# Altium schematic symbol library SMD Resistors 0603.SchLib: 112 symbols (part 2 of 2)
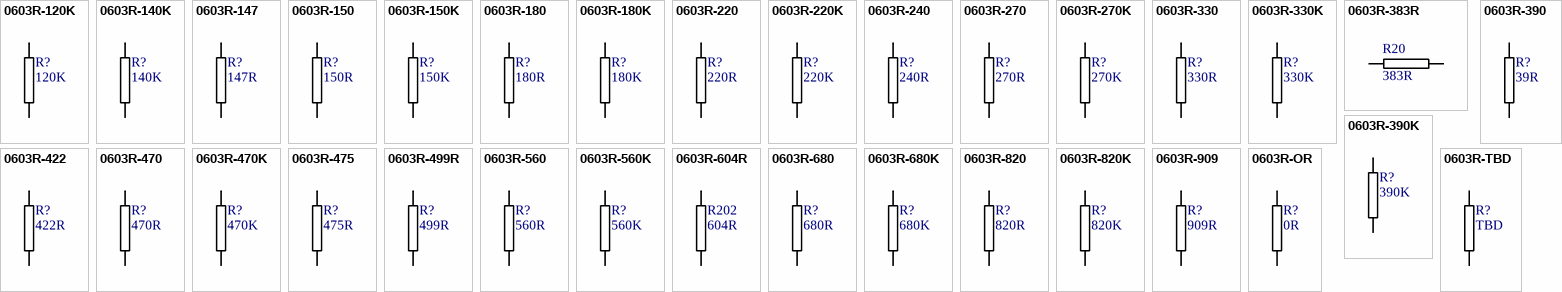
[diagram p3: symbols 0603R-120K to 0603R-TBD]

## 0603R-470K
designator R?, comment 470K
GENERIC RESISTOR 0603; Manufacturer Part Number: RMCF 1/16 470K 1% R; Manufacturer: Stackpole Electronics Inc; Temperature Coefficient: ±100ppm/°C; Description: RES 470K OHM 1/10W 1% 0603 SMD; Tolerance: ±1%; Power (Watts): 0.1W, 1/10W; Supplier 1: Digi-Key; Supplier Part Number 1: RMCF1/16470KFRCT-ND; Supplier Part Number: RMCF1/16470KFRCT-ND; Composition: Thick Film; Category: Resistors; Lead Style: Surface Mount (SMD - SMT); RoHS: RoHS Compliant; Resistance In Ohms: 470K; Case: 0603 (1608 metric); Supplier: Digi-Key; Packaging: Cut Tape (CT)
footprint 0603R-470K (RESISTOR 0603)
pins: 1, 2

## 0603R-475
designator R?, comment 475R
GENERIC RESISTOR 0603; Manufacturer: Stackpole Electronics Inc; Manufacturer Part Number: RMCF 1/16 475 1% R; Description: RES 475 OHM 1/10W 1% 0603 SMD; Temperature Coefficient: ±100ppm/°C; Tolerance: ±1%; Power (Watts): 0.1W, 1/10W; Resistance In Ohms: 475; Reel: R29; Supplier 1: Digi-Key; Supplier Part Number 1: RMCF1/16475FRTR-ND; RoHS: RoHS Compliant; Supplier Part Number: RMCF1/16475FRTR-ND; Category: Resistors; Packaging: Tape & Reel (TR); Lead Style: Surface Mount (SMD - SMT); Supplier: Digi-Key; Case: 0603 (1608 metric); Composition: Thick Film
footprint 0603R-TBD (RESISTOR 0603 VALUE TO BE DETERMINED)
pins: 1, 2

## 0603R-499R
designator R?, comment 499R
GENERIC RESISTOR 0603; Supplier 1: Digi-Key; Supplier Part Number 1: RNCP0603FTD499RTR-ND
footprint 0603R-GENERIC (RESISTOR 0603)
footprint 0603R-NI (RESISTOR 0603 NON INSTALLED)
pins: 1, 2

## 0603R-560
designator R?, comment 560R
GENERIC RESISTOR 0603; Manufacturer: Stackpole Electronics Inc; Manufacturer Part Number: RMC 1/16 560 1% R; Power (Watts): 0.1W, 1/10W; Description: RES TF 1/10W 560 OHM 1% 0603; Resistance In Ohms: 560; Temperature Coefficient: ±100ppm/°C; Tolerance: ±1%; Supplier 1: Digi-Key; Supplier Part Number 1: RMC1/16560FR-ND; Case: 0603 (1608 metric); Lead Style: Surface Mount (SMD - SMT); Composition: Thick Film; Supplier Part Number: RMC1/16560FR-ND; RoHS: RoHS Compliant; Category: Resistors; Supplier: Digi-Key; Packaging: Tape & Reel (TR)
footprint 0603R-560 (RESISTOR 0603)
pins: 1, 2

## 0603R-560K
designator R?, comment 560K
GENERIC RESISTOR 0603; Manufacturer: Stackpole Electronics Inc; Manufacturer Part Number: RMC 1/16 560K 1% R; Temperature Coefficient: ±100ppm/°C; Power (Watts): 0.1W, 1/10W; Tolerance: ±1%; Description: RES TF 1/10W 560K OHM 1% 0603; Supplier 1: Digi-Key; Supplier Part Number 1: RMC1/16560KFR-ND; RoHS: RoHS non-compliant; Packaging: Tape & Reel (TR); Lead Style: Surface Mount (SMD - SMT); Supplier: Digi-Key; Case: 0603 (1608 metric); Supplier Part Number: RMC1/16560KFR-ND; Resistance In Ohms: 560K; Composition: Thick Film; Category: Resistors
footprint 0603R-560K (RESISTOR 0603)
pins: 1, 2

## 0603R-604R
designator R202, comment 604R
GENERIC RESISTOR 0603; REEL: R68; Supplier 1: Digi-Key; Supplier Part Number 1: P604HCT-ND
footprint 0603R-GENERIC (RESISTOR 0603)
pins: 1, 2

## 0603R-680
designator R?, comment 680R
GENERIC RESISTOR 0603; Manufacturer Part Number: RMC 1/16 680 1% R; Manufacturer: Stackpole Electronics Inc; Resistance In Ohms: 680; Description: RES TF 1/10W 680 OHM 1% 0603; Temperature Coefficient: ±100ppm/°C; Tolerance: ±1%; Power (Watts): 0.1W, 1/10W; Supplier 1: Digi-Key; Supplier Part Number 1: RMC1/16680FR-ND; Packaging: Tape & Reel (TR); Supplier: Digi-Key; Composition: Thick Film; Case: 0603 (1608 metric); Category: Resistors; RoHS: RoHS Compliant; Lead Style: Surface Mount (SMD - SMT); Supplier Part Number: RMC1/16680FR-ND
footprint 0603R-680 (RESISTOR 0603)
pins: 1, 2

## 0603R-680K
designator R?, comment 680K
GENERIC RESISTOR 0603; Manufacturer Part Number: RMC 1/16 680K 1% R; Manufacturer: Stackpole Electronics Inc; Description: RES TF 1/10W 680K OHM 1% 0603; Power (Watts): 0.1W, 1/10W; Tolerance: ±1%; Temperature Coefficient: ±100ppm/°C; Supplier 1: Digi-Key; Supplier Part Number 1: RMC1/16680KFR-ND; Case: 0603 (1608 metric); Resistance In Ohms: 680K; Supplier Part Number: RMC1/16680KFR-ND; Composition: Thick Film; Lead Style: Surface Mount (SMD - SMT); Packaging: Tape & Reel (TR); Category: Resistors; Supplier: Digi-Key; RoHS: RoHS Compliant
footprint 0603R-680K (RESISTOR 0603)
pins: 1, 2

## 0603R-820
designator R?, comment 820R
GENERIC RESISTOR 0603; Manufacturer Part Number: RMC 1/16 820 1% R; Manufacturer: Stackpole Electronics Inc; Description: RES TF 1/10W 820 OHM 1% 0603; Power (Watts): 0.1W, 1/10W; Tolerance: ±1%; Resistance In Ohms: 820; Temperature Coefficient: ±100ppm/°C; Supplier 1: Digi-Key; Supplier Part Number 1: RMC1/16820FR-ND; RoHS: RoHS non-compliant; Supplier: Digi-Key; Case: 0603 (1608 metric); Lead Style: Surface Mount (SMD - SMT); Composition: Thick Film; Category: Resistors; Packaging: Tape & Reel (TR); Supplier Part Number: RMC1/16820FR-ND
footprint 0603R-820 (RESISTOR 0603)
pins: 1, 2

## 0603R-820K
designator R?, comment 820K
GENERIC RESISTOR 0603; Manufacturer: Stackpole Electronics Inc; Manufacturer Part Number: RMC 1/16 820K 1% R; Power (Watts): 0.1W, 1/10W; Temperature Coefficient: ±100ppm/°C; Tolerance: ±1%; Description: RES TF 1/10W 820K OHM 1% 0603; Supplier 1: Digi-Key; Supplier Part Number 1: RMC1/16820KFR-ND; Case: 0603 (1608 metric); RoHS: RoHS non-compliant; Supplier Part Number: RMC1/16820KFR-ND; Category: Resistors; Composition: Thick Film; Packaging: Tape & Reel (TR); Lead Style: Surface Mount (SMD - SMT); Resistance In Ohms: 820K; Supplier: Digi-Key
footprint 0603R-GENERIC (RESISTOR 0603)
pins: 1, 2

## 0603R-909
designator R?, comment 909R
GENERIC RESISTOR 0603; Manufacturer: Stackpole Electronics Inc; Manufacturer Part Number: RMC 1/16 909 1% R; Description: RES TF 1/10W 909 OHM 1% 0603; Temperature Coefficient: ±100ppm/°C; Resistance In Ohms: 909; Tolerance: ±1%; Power (Watts): 0.1W, 1/10W; Reel: R25; Supplier 1: Digi-Key; Supplier Part Number 1: RMC1/16909FR-ND; Supplier Part Number: RMC1/16909FR-ND; Category: Resistors; RoHS: RoHS non-compliant; Composition: Thick Film; Lead Style: Surface Mount (SMD - SMT); Packaging: Tape & Reel (TR); Supplier: Digi-Key; Case: 0603 (1608 metric)
footprint 0603R-909 (Footprint not found)
pins: 1, 2

## 0603R-OR
designator R?, comment 0R
GENERIC JUMPER 0603; Manufacturer: Stackpole Electronics Inc; Manufacturer Part Number: RMC 1/16 0 G; Description: RES TF 1/10W 5% 0603; Reel: R26; Supplier 1: Digi-Key; Supplier Part Number 1: RMCF0603ZT0R00TR-ND
footprint 0603R-0R (RESISTOR 0603)
footprint 0603R-NI (RESISTOR 0603 NON INSTALLED)
pins: 1, 2

## 0603R-TBD
designator R?, comment TBD
RESISTOR 0603 VALUE TO BE DETERMINED
footprint 0603R-TBD (RESISTOR 0603 VALUE TO BE DETERMINED)
pins: 1, 2